# EAGLE library part BQ500110 (library texas)
Wireless Power Transmitter Manager Qi Compliant
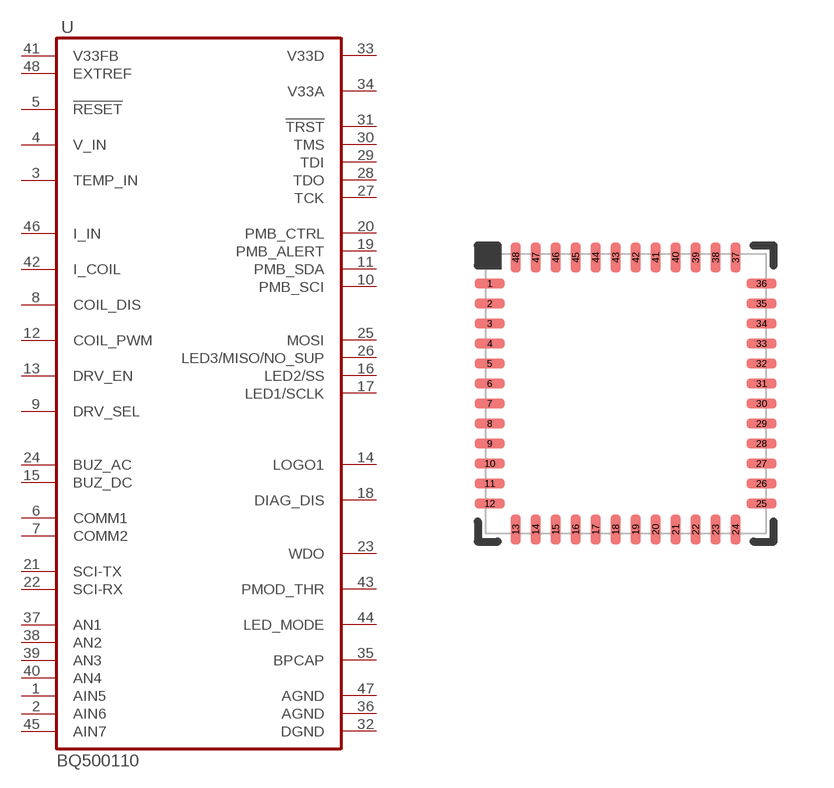
[diagram p62: symbol with the pads of QFN48; footprint QFN48]

Designator prefix U

## BQ500110  [QFN48]
1  AIN5  in
2  AIN6  in
3  TEMP_IN  in
4  V_IN  in
5  !RESET!  in
6  COMM1  in
7  COMM2  in
8  COIL_DIS  in
9  DRV_SEL  in
10  PMB_SCI
11  PMB_SDA
12  COIL_PWM  out
13  DRV_EN  out
14  LOGO1  out
15  BUZ_DC  out
16  LED2/SS  out
17  LED1/SCLK  out
18  DIAG_DIS
19  PMB_ALERT
20  PMB_CTRL
21  SCI-TX
22  SCI-RX
23  WDO
24  BUZ_AC
25  MOSI
26  LED3/MISO/NO_SUP
27  TCK
28  TDO
29  TDI
30  TMS
31  !TRST!
32  DGND  pwr
33  V33D  pwr
34  V33A  pwr
35  BPCAP  in
36  AGND  pwr
37  AN1  in
38  AN2  in
39  AN3  in
40  AN4  in
41  V33FB  in
42  I_COIL  in
43  PMOD_THR  in
44  LED_MODE  in
45  AIN7  in
46  I_IN  in
47  AGND  pwr
48  EXTREF  in

## Footprint QFN48 (pad centres in mm)
QFN 48 body 7 X 7 mm
smd 0.75 x 0.25: 1 -3.4,2.75; 2 -3.4,2.25; 3 -3.4,1.75; 4 -3.4,1.25; 5 -3.4,0.75; 6 -3.4,0.25; 7 -3.4,-0.25; 8 -3.4,-0.75; 9 -3.4,-1.25; 10 -3.4,-1.75; 11 -3.4,-2.25; 12 -3.4,-2.75; 25 3.4,-2.75; 26 3.4,-2.25; 27 3.4,-1.75; 28 3.4,-1.25; 29 3.4,-0.75; 30 3.4,-0.25; 31 3.4,0.25; 32 3.4,0.75; 33 3.4,1.25; 34 3.4,1.75; 35 3.4,2.25; 36 3.4,2.75
smd 0.25 x 0.75: 13 -2.75,-3.4; 14 -2.25,-3.4; 15 -1.75,-3.4; 16 -1.25,-3.4; 17 -0.75,-3.4; 18 -0.25,-3.4; 19 0.25,-3.4; 20 0.75,-3.4; 21 1.25,-3.4; 22 1.75,-3.4; 23 2.25,-3.4; 24 2.75,-3.4; 37 2.75,3.4; 38 2.25,3.4; 39 1.75,3.4; 40 1.25,3.4; 41 0.75,3.4; 42 0.25,3.4; 43 -0.25,3.4; 44 -0.75,3.4; 45 -1.25,3.4; 46 -1.75,3.4; 47 -2.25,3.4; 48 -2.75,3.4